# Altium schematic symbol library SCR.SchLib: 1 symbol
Pins are listed as number, name and electrical type; pins without a type are passive.

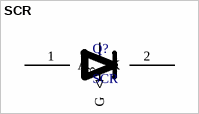
[diagram p0: symbol SCR]

## SCR
designator Q?
SCR thyristor symbol
pins: 1 A, 2 K, 3 G (in)